# Altium integrated library XETA9.IntLib: 1 symbol
Pins are listed as number, name and electrical type; pins without a type are passive.

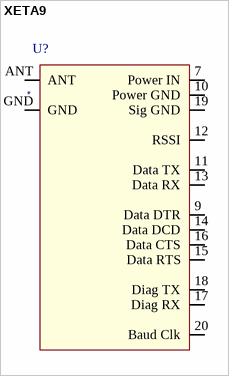
[diagram p0: symbol XETA9]

## XETA9
designator U?
PDF: *; ID: *; BUY_LINK: *; PRICE: *
footprint XETA9
pins: 7 Power IN, 9 Data DTR, 10 Power GND, 11 Data TX, 12 RSSI, 13 Data RX, 14 Data DCD, 15 Data RTS, 16 Data CTS, 17 Diag RX, 18 Diag TX, 19 Sig GND, 20 Baud Clk, ANT, GND